# Altium schematic symbol library resistor.SchLib: 25 symbols
Pins are listed as number, name and electrical type; pins without a type are passive.

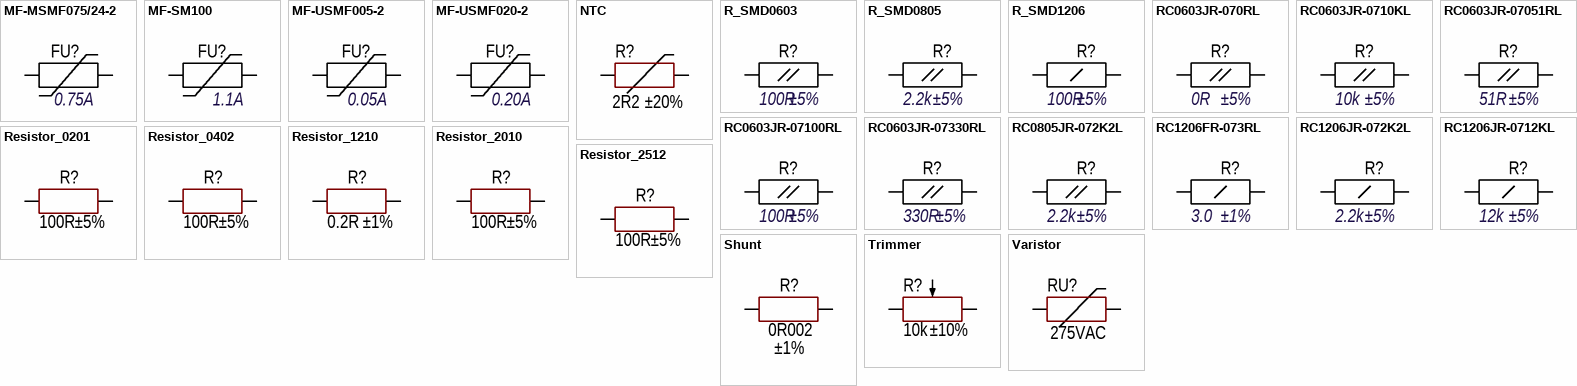
[diagram p0: symbols MF-MSMF075/24-2 to Varistor]

## MF-MSMF075/24-2
designator FU?  value 0.75A
Surface Mount Resettable Fuse, PTC 750mA, 24 V, SMD1812; Manufacturer: BOURNS; PartNumber: MF-MSMF075/24-2; ValueManufacturerPartNumber: Multifuse 0.75A ±20%, SMD1812 (BOURNS MF-MSMF075/24-2); TypeResistor: Multifuse; Tolerance: ±20%; Package: SMD1812; HelpURL: https://www.bourns.com/pdfs/mfmsmf.pdf; Temperature: -40...+85°C; MaxCurrent: 0.75A
footprint MF-MSMF075/24-2 (Fuse, PTC, Resettable,SMD,1812,750mA,24V Bourns 0.75A Surface Mount Resettable Fuse, 24 V)
pins: 1, 2

## MF-SM100
designator FU?  value 1.1A
Surface Mount Resettable Fuse, PTC 1.1A, 30 V, SMD2920; Manufacturer: BOURNS; PartNumber: MF-SM100; ValueManufacturerPartNumber: Multifuse 1.1A ±20%, SMD2920 (BOURNS MF-SM100); TypeResistor: Multifuse; Tolerance: ±20%; Package: SMD2920; HelpURL: https://www.bourns.com/docs/Product-Datasheets/mfsm.pdf; Temperature: -40...+85°C; MaxCurrent: 1.1A
footprint MF-SM100 (Fuse, PTC, Resettable, SMD, 2920, 1.1A Bourns 1.1A Surface Mount Resettable Fuse, 30 V)
pins: 1, 2

## MF-USMF005-2
designator FU?  value 0.05A
Surface Mount Resettable Fuse, PTC 50mA, 30 V, SMD1210; Manufacturer: BOURNS; PartNumber: MF-USMF005-2; ValueManufacturerPartNumber: Multifuse 0.05A ±20%, SMD1210 (BOURNS MF-USMF005-2); TypeResistor: Multifuse; Tolerance: ±20%; Package: SMD1210; HelpURL: https://www.bourns.com/pdfs/mfusmf.pdf; Temperature: -40...+85°C; MaxCurrent: 0.05A
footprint MF-USMF (SMD, 1210, Bourns Surface Mount Resettable Fuse)
pins: 1, 2

## MF-USMF020-2
designator FU?  value 0.20A
Surface Mount Resettable Fuse, PTC 200mA, 30 V, SMD1210; Manufacturer: BOURNS; PartNumber: MF-USMF020-2; ValueManufacturerPartNumber: Multifuse 0.2A ±20%, SMD1210 (BOURNS MF-USMF020-2); TypeResistor: Multifuse; MaxCurrent: 0.2A; Tolerance: ±20%; Package: SMD1210; HelpURL: https://www.bourns.com/pdfs/mfusmf.pdf; Temperature: -40...+85°C
footprint MF-USMF (SMD, 1210, Bourns Surface Mount Resettable Fuse)
pins: 1, 2

## NTC
designator R?  value 2R2  Tolerance: ±20%
Manufacturer: Epcos; PartNumber: B57237S229M54; ValueManufacturerPartNumber: NTC resistor 7A pitch 7.5mm. 2R2 ±20% (Epcos B57237S229M54); TypeResistor: NTC resistor; MaxCurrent: 7A; Package: pitch 7.5mm; HelpURL: https://www.digikey.com/product-detail/en/epcos-tdk/B57237S229M54/495-76635-1-ND/8126375; Temperature: -55...+125°C
footprint RES: 0201
footprint RES: 0402
footprint RES: 0603
footprint RES: 0805
footprint RES: 1206
footprint RES: B57237 (NTC)
pins: 1, 2

## R_SMD0603
designator R?  value 100R  Tolerance: ±5%
GENERAL PURPOSE CHIP RESISTOR, SMD0603; Manufacturer: Yageo; PartNumber: RC0603JR-07100RL; TypeResistor: Resistor film; Power: 0.1W; Package: 0603; HelpURL: https://www.yageo.com/upload/media/product/productsearch/datasheet/rchip/PYu-RC_Group_51_RoHS_L_12.pdf; ValueManufacturerPartNumber: =TypeResistor+' '+MaxCurrent+' '+Package+'. '+Value+' '+Tolerance+' ('+Manufacturer+' '+PartNumber+')'; Temperature: -55...+125°C
footprint R_SMD0603(1608)
pins: 1, 2

## R_SMD0805
designator R?  value 2.2k  Tolerance: ±5%
GENERAL PURPOSE CHIP RESISTOR, SMD0805; Manufacturer: YAGEO; PartNumber: RC0805JR-072K2L; TypeResistor: Resistor film; Power: 0.125W; Package: SMD0805; HelpURL: https://www.yageo.com/upload/media/product/productsearch/datasheet/rchip/PYu-RC_Group_51_RoHS_L_12.pdf; ValueManufacturerPartNumber: =TypeResistor+' '+MaxCurrent+' '+Package+'. '+Value+' '+Tolerance+' ('+Manufacturer+' '+PartNumber+')'; Temperature: -55...+125°C
footprint R_SMD0805(2012)
pins: 1, 2

## R_SMD1206
designator R?  value 100R  Tolerance: ±5%
GENERAL PURPOSE CHIP RESISTOR, SMD1206; Manufacturer: Yageo; PartNumber: RC1206JR-07100RL; TypeResistor: Resistor film; Power: 0.25W; Package: 1206; HelpURL: https://www.yageo.com/upload/media/product/productsearch/datasheet/rchip/PYu-RC_Group_51_RoHS_L_12.pdf; ValueManufacturerPartNumber: =TypeResistor+' '+MaxCurrent+' '+Package+'. '+Value+' '+Tolerance+' ('+Manufacturer+' '+PartNumber+')'; Temperature: -55...+125°C
footprint R_SMD1206(3216)
pins: 1, 2

## RC0603JR-070RL
designator R?  value 0R  Tolerance: ±5%
0 Ohm (jumper), GENERAL PURPOSE CHIP RESISTOR, SMD0603; Manufacturer: Yageo; PartNumber: RC0603JR-070RL; TypeResistor: Resistor film; Power: 0.1W; Package: 0603; HelpURL: https://www.yageo.com/upload/media/product/productsearch/datasheet/rchip/PYu-RC_Group_51_RoHS_L_12.pdf; ValueManufacturerPartNumber: =TypeResistor+' '+MaxCurrent+' '+Package+'. '+Value+' '+Tolerance+' ('+Manufacturer+' '+PartNumber+')'; Temperature: -55...+125°C
footprint R_SMD0603(1608)
pins: 1, 2

## RC0603JR-0710KL
designator R?  value 10k  Tolerance: ±5%
10 kOhm, GENERAL PURPOSE CHIP RESISTOR, SMD0603; Manufacturer: Yageo; PartNumber: RC0603JR-0710KL; TypeResistor: Resistor film; Power: 0.1W; Package: 0603; HelpURL: https://www.yageo.com/upload/media/product/productsearch/datasheet/rchip/PYu-RC_Group_51_RoHS_L_12.pdf; ValueManufacturerPartNumber: =TypeResistor+' '+MaxCurrent+' '+Package+'. '+Value+' '+Tolerance+' ('+Manufacturer+' '+PartNumber+')'; Temperature: -55...+125°C
footprint R_SMD0603(1608)
pins: 1, 2

## RC0603JR-07051RL
designator R?  value 51R  Tolerance: ±5%
51 Ohm, GENERAL PURPOSE CHIP RESISTOR, SMD0603; Manufacturer: Yageo; PartNumber: RC0603JR-07051RL; TypeResistor: Resistor film; Power: 0.1W; Package: 0603; HelpURL: https://www.yageo.com/upload/media/product/productsearch/datasheet/rchip/PYu-RC_Group_51_RoHS_L_12.pdf; ValueManufacturerPartNumber: =TypeResistor+' '+MaxCurrent+' '+Package+'. '+Value+' '+Tolerance+' ('+Manufacturer+' '+PartNumber+')'; Temperature: -55...+125°C
footprint R_SMD0603(1608)
pins: 1, 2

## RC0603JR-07100RL
designator R?  value 100R  Tolerance: ±5%
100 Ohm, GENERAL PURPOSE CHIP RESISTOR, SMD0603; Manufacturer: Yageo; PartNumber: RC0603JR-07100RL; TypeResistor: Resistor film; Power: 0.1W; Package: 0603; HelpURL: https://www.yageo.com/upload/media/product/productsearch/datasheet/rchip/PYu-RC_Group_51_RoHS_L_12.pdf; ValueManufacturerPartNumber: =TypeResistor+' '+MaxCurrent+' '+Package+'. '+Value+' '+Tolerance+' ('+Manufacturer+' '+PartNumber+')'; Temperature: -55...+125°C
footprint R_SMD0603(1608)
pins: 1, 2

## RC0603JR-07330RL
designator R?  value 330R  Tolerance: ±5%
330 Ohm, GENERAL PURPOSE CHIP RESISTOR, SMD0603; Manufacturer: Yageo; PartNumber: RC0603JR-07330RL; TypeResistor: Resistor film; Power: 0.1W; Package: 0603; HelpURL: https://www.yageo.com/upload/media/product/productsearch/datasheet/rchip/PYu-RC_Group_51_RoHS_L_12.pdf; ValueManufacturerPartNumber: =TypeResistor+' '+MaxCurrent+' '+Package+'. '+Value+' '+Tolerance+' ('+Manufacturer+' '+PartNumber+')'; Temperature: -55...+125°C
footprint R_SMD0603(1608)
pins: 1, 2

## RC0805JR-072K2L
designator R?  value 2.2k  Tolerance: ±5%
2.2 kOhm, GENERAL PURPOSE CHIP RESISTOR, SMD0805; Manufacturer: YAGEO; PartNumber: RC0805JR-072K2L; ValueManufacturerPartNumber: Resistor film 0.125W SMD0805. 2.2k ±5% (YAGEO RC0805JR-072K2L); TypeResistor: Resistor film; Power: 0.125W; Package: SMD0805; HelpURL: https://www.yageo.com/upload/media/product/productsearch/datasheet/rchip/PYu-RC_Group_51_RoHS_L_12.pdf; Temperature: -55...+125°C
footprint R_SMD0805(2012)
pins: 1, 2

## RC1206FR-073RL
designator R?  value 3.0  Tolerance: ±1%
3.0 Ohm, GENERAL PURPOSE CHIP RESISTOR, SMD1206; Manufacturer: Yageo; PartNumber: RC1206FR-073RL; ValueManufacturerPartNumber: Resistor film 0.25W SMD1206. 3.0 ±1% (Yageo RC1206FR-073RL); TypeResistor: Resistor film; Power: 0.25W; Package: SMD1206; HelpURL: https://www.yageo.com/upload/media/product/productsearch/datasheet/rchip/PYu-RC_Group_51_RoHS_L_12.pdf; Temperature: -55...+125°C
footprint R_SMD1206(3216)
pins: 1, 2

## RC1206JR-072K2L
designator R?  value 2.2k  Tolerance: ±5%
2.2 kOhm, GENERAL PURPOSE CHIP RESISTOR, SMD1206; Manufacturer: Yageo; PartNumber: RC1206JR-072K2L; ValueManufacturerPartNumber: Resistor film 0.25W, SMD1206, 2.2k ±5% (Yageo RC1206JR-072K2L); TypeResistor: Resistor film; Power: 0.25W; Package: SMD1206; HelpURL: https://www.yageo.com/upload/media/product/productsearch/datasheet/rchip/PYu-RC_Group_51_RoHS_L_12.pdf; Temperature: -55...+125°C
footprint R_SMD1206(3216)
pins: 1, 2

## RC1206JR-0712KL
designator R?  value 12k  Tolerance: ±5%
12 kOhm, GENERAL PURPOSE CHIP RESISTOR, SMD1206; Manufacturer: Yageo; PartNumber: RC1206JR-0712KL; ValueManufacturerPartNumber: Resistor film 0.25W SMD1206. 12k ±5% (Yageo RC1206JR-0712KL); TypeResistor: Resistor film; Power: 0.25W; Package: SMD1206; HelpURL: https://www.yageo.com/upload/media/product/productsearch/datasheet/rchip/PYu-RC_Group_51_RoHS_L_12.pdf; Temperature: -55...+125°C
footprint R_SMD1206(3216)
pins: 1, 2

## Resistor_0201
designator R?  value 100R  Tolerance: ±5%
Manufacturer: Yageo; PartNumber: RC0201JR-07100RL; TypeResistor: Resistor film; Power: 0.05W; Package: 0201; HelpURL: https://www.digikey.com/product-detail/en/yageo/RC0201JR-07100RL/311-100NCT-ND/1949006; ValueManufacturerPartNumber: =TypeResistor+' '+MaxCurrent+' '+Package+'. '+Value+' '+Tolerance+' ('+Manufacturer+' '+PartNumber+')'; Temperature: -55...+125°C
footprint RES: 0201
pins: 1, 2

## Resistor_0402
designator R?  value 100R  Tolerance: ±5%
Manufacturer: Yageo; PartNumber: RC0402JR-07100RL; TypeResistor: Resistor film; Power: 0.063W; Package: 0402; HelpURL: https://www.digikey.com/product-detail/en/yageo/RC0402JR-07100RL/311-100JRCT-ND/729362; ValueManufacturerPartNumber: =TypeResistor+' '+MaxCurrent+' '+Package+'. '+Value+' '+Tolerance+' ('+Manufacturer+' '+PartNumber+')'; Temperature: -55...+125°C
footprint RES: 0402
pins: 1, 2

## Resistor_1210
designator R?  value 0.2R  Tolerance: ±1%
Manufacturer: Yageo; PartNumber: RL1210FR-070R2L; TypeResistor: Resistor film; Power: 0.5W; Package: 1210; HelpURL: https://www.digikey.com/product-detail/en/yageo/RL1210FR-070R2L/311-0-2NACT-ND/3886121; ValueManufacturerPartNumber: =TypeResistor+' '+MaxCurrent+' '+Package+'. '+Value+' '+Tolerance+' ('+Manufacturer+' '+PartNumber+')'; Temperature: -55...+125°C
footprint RES: 1210
pins: 1, 2

## Resistor_2010
designator R?  value 100R  Tolerance: ±5%
Manufacturer: Yageo; PartNumber: RC2010JK-07100RL; TypeResistor: Resistor film; Power: 0.75W; Package: 2010; HelpURL: https://www.digikey.com/product-detail/en/yageo/RC2010JK-07100RL/YAG3381CT-ND/5962203; ValueManufacturerPartNumber: =TypeResistor+' '+MaxCurrent+' '+Package+'. '+Value+' '+Tolerance+' ('+Manufacturer+' '+PartNumber+')'; Temperature: -55...+125°C
footprint RES: 2010
pins: 1, 2

## Resistor_2512
designator R?  value 100R  Tolerance: ±5%
Manufacturer: Yageo; PartNumber: RC2512JK-07100RL; TypeResistor: Resistor film; Power: 1W; Package: 2512; HelpURL: https://www.digikey.com/product-detail/en/yageo/RC2512JK-07100RL/YAG3393CT-ND/5962215; ValueManufacturerPartNumber: =TypeResistor+' '+MaxCurrent+' '+Package+'. '+Value+' '+Tolerance+' ('+Manufacturer+' '+PartNumber+')'; Temperature: -55...+125°C
footprint RES: 2512
pins: 1, 2

## Shunt
designator R?  value 0R002  Tolerance: ±1%
Manufacturer: Bourns; PartNumber: CSS2H-2512K-2L00F; ValueManufacturerPartNumber: Resistor film, 0R002, ±1%, 2512, 5W, -55...+170°C; TypeResistor: Resistor film; Power: 5W; Package: 2512; HelpURL: https://www.digikey.com/product-detail/en/bourns-inc/CSS2H-2512K-2L00F/CSS2H-2512K-2L00FCT-ND/6023737; Temperature: -55...+170°C
footprint RES: CSS2H (2512)
pins: 1, 2

## Trimmer
designator R?  value 10k  Tolerance: ±10%
Manufacturer: Bourns; PartNumber: 3296W-1-103LF; ValueManufacturerPartNumber: Resistor film, 10k, ±10%, 3296W, 0.5W, -55...+125°C; TypeResistor: Resistor film; Power: 0.5W; Package: 3296W; HelpURL: https://www.digikey.com/product-detail/en/bourns-inc/3296W-1-103LF/3296W-103LF-ND/1088045; Temperature: -55...+125°C
footprint RES: 3296W
footprint RES: 3314G
footprint RES: 3362P
pins: 1, 2, 3

## Varistor
designator RU?  MaxVoltage: 275VAC
Manufacturer: Bourns; PartNumber: MOV-07D431KTR; ValueManufacturerPartNumber: Varistor, 275VAC, pitch 7mm, -55...+125°C; TypeResistor: Varistor; Package: pitch 7mm; HelpURL: https://www.digikey.com/product-detail/en/bourns-inc/MOV-07D431KTR/MOV-07D431KTRCT-ND/4318145; Temperature: -55...+125°C
footprint RES: TMOV20
footprint RES: MOV-07D431K
pins: 1, 2